# Altium schematic symbol library Ryan_Lee_Date030620.SchLib: 5 symbols
Pins are listed as number, name and electrical type; pins without a type are passive.

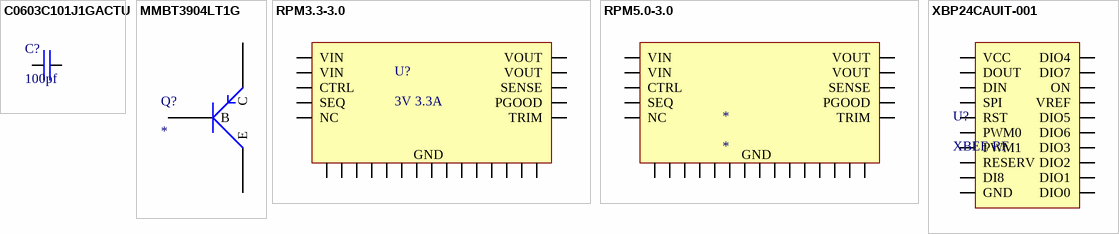
[diagram p0: symbols C0603C101J1GACTU to XBP24CAUIT-001]

## C0603C101J1GACTU
designator C?, comment 100pf
KEMET - C0603C101J1GACTU - Multilayer Ceramic Capacitor, C Series, 100 pF, - 5%, C0G / NP0, 100 V, 0603 [1608 Metric] RoHS Compliant: Yes; Voltage Rating (DC): 100V; Supplier 1: Digi-Key; Manufacturer: KEMET; Manufacturer Part Number: C0603C101J1GACTU; RoHS: Yes; Category: Ceramic Capacitors; Stock 1: 130500; Pricing 1: 1=0.10000, 10=0.06000, 100=0.02670, 500=0.01906, 1000=0.01497 (USD); Mount: Surface Mount; Case/Package: 0603; Dielectric Material: Ceramic; Min Operating Temperature: -55°C; Max Operating Temperature: 125°C; Capacitance: 100pF; Tolerance: 5%; Packaging: Tape and Reel; Dielectric: C0G; Length: 1.6mm; Height: 0.8mm; Depth: 0.8mm; Radiation Hardening: No; Lead Free: Lead Free; ComponentLink1URL: https://datasheet.ciiva.com/18192/getdatasheetpartid-308025-18192620.pdf?src-supplier=Verical; ComponentLink1Description: https://datasheet.ciiva.com/18192/getdatasheetpartid-308025-18192620.pdf?src-supplier=Verical; Supplier Part Number 1: 399-7821-1-ND
footprint 0603
pins: 1, 2

## MMBT3904LT1G
designator Q?
Transistor, Bipolar, Si, NPN, General Purpose, VCEO 40VDC, IC 200mA, PD 225mW, SOT-23; Manufacturer: ON Semiconductor; Manufacturer Part Number: MMBT3904LT1G; Max Power Dissipation: 300mW; Number of Elements: 1; Frequency: 300MHz; hFE Min: 100; Collector Emitter Voltage (VCEO): 40V; Collector Base Voltage (VCBO): 60V; Emitter Base Voltage (VEBO): 6V; Collector Emitter Saturation Voltage: 300mV; Element Configuration: Single; Supplier 1: Digi-Key; RoHS: Yes; Category: BJTs; Stock 1: 1662424; Pricing 1: 1=0.12000, 10=0.11200, 25=0.10640, 100=0.04680, 250=0.04488, 500=0.03672, 1000=0.02550 (USD); Case/Package: SOT-23-3; Number of Pins: 3; Contact Plating: Tin,Matte; Min Operating Temperature: -55°C; Max Operating Temperature: 150°C; Package Quantity: 1; Packaging: Tape and Reel; Max Collector Current: 200mA; Transition Frequency: 300MHz; Polarity: NPN; Collector Emitter Breakdown Voltage: 40V; Max Breakdown Voltage: 40V; Power Dissipation: 300mW; Gain Bandwidth Product: 300MHz; Max Frequency: 300MHz; Voltage Rating (DC): 40V; Current Rating: 200mA; Type: General Purpose; Length: 2.9mm; Height: 0.94mm; Width: 1.3mm; Radiation Hardening: No; REACH SVHC: No SVHC; Lead Free: Lead Free; ComponentLink1URL: https://datasheet.ciiva.com/16199/mmbt3904lt1-d-16199009.pdf?src-supplier=Future+Electronics; ComponentLink1Description: https://datasheet.ciiva.com/16199/mmbt3904lt1-d-16199009.pdf?src-supplier=Future+Electronics; ComponentLink2URL: https://datasheet.ciiva.com/4723/mmbt3904lt1-d-113169-4723050.pdf?src-supplier=Mouser; ComponentLink2Description: https://datasheet.ciiva.com/4723/mmbt3904lt1-d-113169-4723050.pdf?src-supplier=Mouser; ComponentLink3URL: https://datasheet.ciiva.com/15138/getdatasheetpartid-53263-15138779.pdf?src-supplier=Verical; ComponentLink3Description: https://datasheet.ciiva.com/15138/getdatasheetpartid-53263-15138779.pdf?src-supplier=Verical; ComponentLink4URL: https://datasheet.ciiva.com/11199/mmbt3904lt1-d-11199003.pdf?src-supplier=Avnet; ComponentLink4Description: https://datasheet.ciiva.com/11199/mmbt3904lt1-d-11199003.pdf?src-supplier=Avnet; ComponentLink5URL: https://datasheet.ciiva.com/976/mmbt3904lt1-d-976364.pdf?src-supplier=Digi-Key; ComponentLink5Description: https://datasheet.ciiva.com/976/mmbt3904lt1-d-976364.pdf?src-supplier=Digi-Key; ComponentLink6URL: https://datasheet.ciiva.com/14546/70099530-14546188.pdf?src-supplier=Allied+Electronics; ComponentLink6Description: https://datasheet.ciiva.com/14546/70099530-14546188.pdf?src-supplier=Allied+Electronics; ComponentLink7URL: https://datasheet.ciiva.com/7972/1708269-7972381.pdf?src-supplier=Element14; ComponentLink7Description: https://datasheet.ciiva.com/7972/1708269-7972381.pdf?src-supplier=Element14; ComponentLink8URL: https://datasheet.ciiva.com/22664/1708269-22664159.pdf?src-supplier=Element14; ComponentLink8Description: https://datasheet.ciiva.com/22664/1708269-22664159.pdf?src-supplier=Element14; ComponentLink9URL: https://datasheet.ciiva.com/976/mmbt3904lt1-d-976362.pdf?src-supplier=Digi-Key; ComponentLink9Description: https://datasheet.ciiva.com/976/mmbt3904lt1-d-976362.pdf?src-supplier=Digi-Key; ComponentLink10URL: https://datasheet.ciiva.com/16478/mmbt3904lt1-d-16478538.pdf?src-supplier=Avnet+Asia; ComponentLink10Description: https://datasheet.ciiva.com/16478/mmbt3904lt1-d-16478538.pdf?src-supplier=Avnet+Asia; ComponentLink11URL: https://datasheet.ciiva.com/976/mmbt3904lt1-d-976363.pdf?src-supplier=Digi-Key; ComponentLink11Description: https://datasheet.ciiva.com/976/mmbt3904lt1-d-976363.pdf?src-supplier=Digi-Key; Supplier Part Number 1: MMBT3904LT1GOSCT-ND
footprint MMBT3904LT1G (BJT)
pins: 1 B, 2 C, 3 E

## RPM3.3-3.0
designator U?, comment 3V 3.3A
RPM-3.0 Series 3 to 17 V Input 3.3 V Output 3 A Non Isolated DC/DC Converter; Manufacturer: Recom; Manufacturer Part Number: RPM3.3-3.0; Supplier 1: Digi-Key; RoHS: No; Category: Voltage Regulators - Switching; Stock 1: 281; Pricing 1: 1=4.26000 (USD); ComponentLink1URL: https://www.recom-power.com/pdf/Innoline/RPM-3.0.pdf?src-supplier=Digi-Key; ComponentLink1Description: https://www.recom-power.com/pdf/Innoline/RPM-3.0.pdf?src-supplier=Digi-Key; Supplier Part Number 1: 945-3253-1-ND
footprint 25-BLGA
pins: A1 VIN, A2 VIN, A3 GND, A4 GND, A5 VOUT, B1 GND, B2 GND, B3 GND, B4 GND, B5 VOUT, C1 CTRL, C2 GND, C3 GND, C4 GND, C5 SENSE, D1 PGOOD, D2 GND, D3 GND, D4 GND, D5 GND, E1 SEQ, E2 NC, E3 GND, E4 GND, E5 TRIM

## RPM5.0-3.0
designator *
DC-DC Converter; SMD; reg; Single Output; 3A; 5V Out; RPM-3.0 Series; Manufacturer: Recom; Manufacturer Part Number: RPM5.0-3.0; Supplier 1: Digi-Key; RoHS: No; Category: Voltage Regulators - Switching; Stock 1: 912; Pricing 1: 1=4.26000 (USD); ComponentLink1URL: http://www.farnell.com/datasheets/2787803.pdf?src-supplier=Farnell; ComponentLink1Description: http://www.farnell.com/datasheets/2787803.pdf?src-supplier=Farnell; ComponentLink2URL: https://www.recom-power.com/pdf/Innoline/RPM-3.0.pdf?src-supplier=Digi-Key; ComponentLink2Description: https://www.recom-power.com/pdf/Innoline/RPM-3.0.pdf?src-supplier=Digi-Key; Supplier Part Number 1: 945-3254-1-ND
footprint 25-BLGA
pins: A1 VIN, A2 VIN, A3 GND, A4 GND, A5 VOUT, B1 GND, B2 GND, B3 GND, B4 GND, B5 VOUT, C1 CTRL, C2 GND, C3 GND, C4 GND, C5 SENSE, D1 PGOOD, D2 GND, D3 GND, D4 GND, D5 GND, E1 SEQ, E2 NC, E3 GND, E4 GND, E5 TRIM

## XBP24CAUIT-001
designator U?, comment XBEE RF
Rf Transceiver Module, 2.4GHZ, -101DBM; Manufacturer: Digi International; Manufacturer Part Number: XBP24CAUIT-001; Interface: SPI,UART; Data Rate: 1Mbps; Current - Receiving: 31mA; Current - Transmitting: 120mA; Supplier 1: Digi-Key; RoHS: No; Category: RF Receivers, Transceivers; Stock 1: 500; Pricing 1: 1=32.56000 (USD); Mount: Through Hole; Case/Package: Module; Min Operating Temperature: -40°C; Max Operating Temperature: 85°C; Packaging: Tray; Frequency: 2.4GHz; Sensitivity: -101dBm; ComponentLink1URL: https://www.digi.com/resources/documentation/digidocs/pdfs/90001500.pdf?src-supplier=Digi-Key; ComponentLink1Description: https://www.digi.com/resources/documentation/digidocs/pdfs/90001500.pdf?src-supplier=Digi-Key; Supplier Part Number 1: 602-1897-ND
footprint XBP24CAUIT-001
pins: 1 VCC, 2 DOUT, 3 DIN, 4 SPI, 5 RST, 6 PWM0, 7 PWM1, 8 RESERV, 9 DI8, 10 GND, 11 DIO4, 12 DIO7, 13 ON, 14 VREF, 15 DIO5, 16 DIO6, 17 DIO3, 18 DIO2, 19 DIO1, 20 DIO0